# Altium footprint library FCI USB 10033526-N3212LF.PcbLib: 1 footprints
Each footprint in its own frame and in the unit in brackets; x right, y up, seen from the top. Pads: shape width x height; smd on the part's side, far side on the other; paste and mask are expansions set on the pad; w line width, h text height; cw(c..) or ccw(c..) is an arc to the next point about the centre after c.
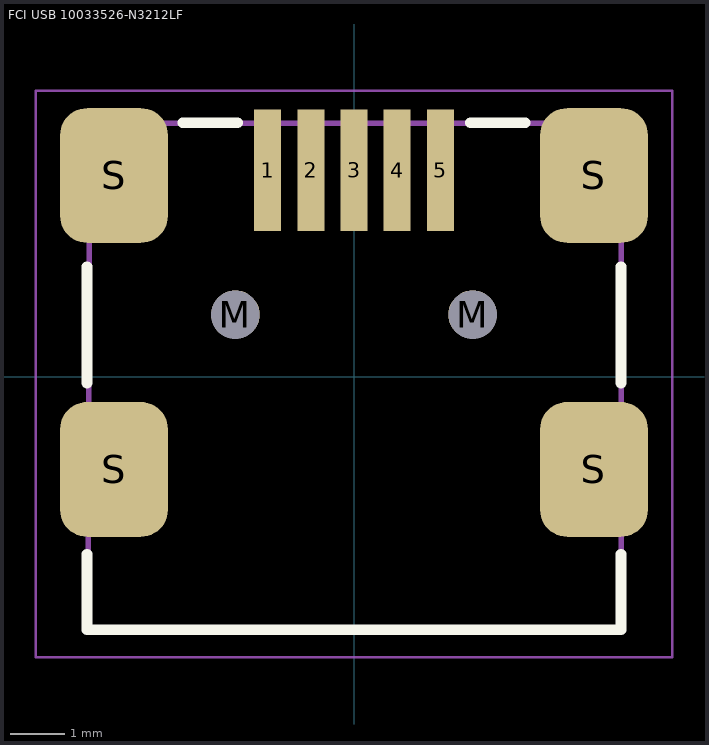
[diagram p0: the footprint, top view; thin cyan lines are the x and y axes]

## FCI USB 10033526-N3212LF [mm] "USB 2.0 Type B Mini"
height 3.95
pads (11):
  rect 0.5x2.25 smd mask+0.075: 1(-1.6,3.826) 2(-0.8,3.826) 3(0,3.826) 4(0.8,3.826) 5(1.6,3.826)
  round 0.9 hole 0.9 unplated: M(-2.2,1.151) M(2.2,1.151)
  rrect50% 2x2.5 smd: S(-4.45,-1.719) S(-4.45,3.731) S(4.45,-1.719) S(4.45,3.731)
Top Overlay:
  lines w0.2: -4.953,-3.294 -4.953,-4.691 4.953,-4.691 4.953,-3.294 ; -4.953,-0.119 -4.953,2.04 ; -3.175,4.707 -2.159,4.707 ; 2.159,4.707 3.175,4.707 ; 4.953,-0.119 4.953,2.04
Top Assembly:
  lines w0.1: -4.94,-4.691 -4.9,4.7 4.953,4.7 4.953,-4.691 -4.94,-4.691
Top Courtyard:
  lines w0.05: -5.9,-5.2 5.9,-5.2 5.9,5.3 -5.9,5.3 -5.9,-5.2
Top Designator:
  text ".Designator" at -7.498,-0.5 h1.5
3D body "FCI USB 10033526-N3212LF.STEP": height 4.01, standoff -0.99, extent -4.95,-4.699 4.95,4.701